# Altium schematic symbol library Interface IC.SchLib: 1 symbol
Pins are listed as number, name and electrical type; pins without a type are passive.

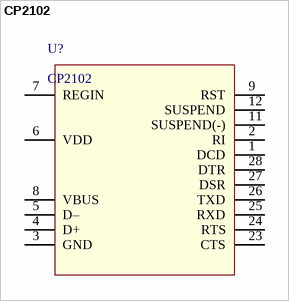
[diagram p0: symbol CP2102]

## CP2102
designator U?
footprint QFN28 (QFN, 28-Leads, Body 5.00x5.00mm, Pitch 0.50mm, Thermal Pad 3.13x3.13mm, IPC Medium Density)
pins: 1 DCD, 2 RI, 3 GND, 4 D+, 5 D–, 6 VDD, 7 REGIN, 8 VBUS, 9 RST, 11 SUSPEND(-), 12 SUSPEND, 23 CTS, 24 RTS, 25 RXD, 26 TXD, 27 DSR, 28 DTR